# Altium schematic symbol library SCH - MCU - SI LABS - SI LABS EFR32MG13P732F512GM32 32-PIN QFN 5X5.SchLib: 1 symbol
Pins are listed as number, name and electrical type; pins without a type are passive.

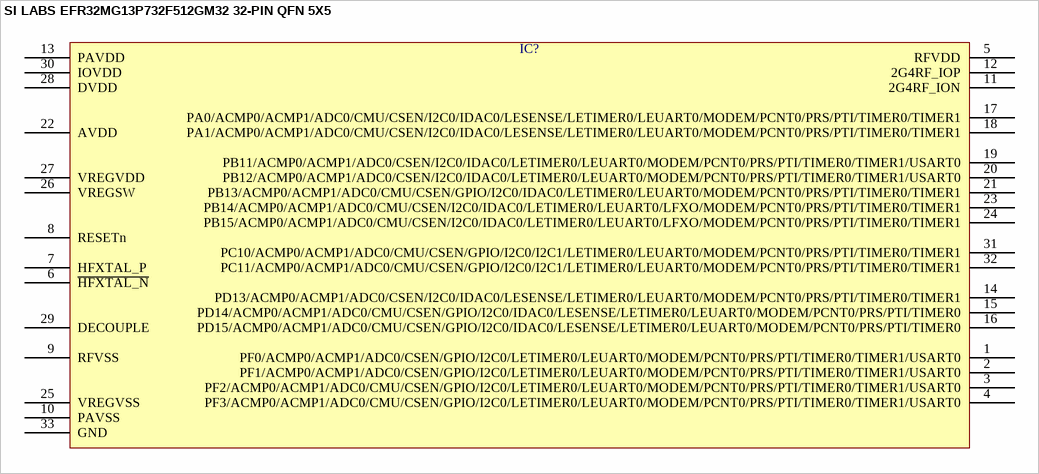
[diagram p0: symbol SI LABS EFR32MG13P732F512GM32 32-PIN QFN 5X5]

## SI LABS EFR32MG13P732F512GM32 32-PIN QFN 5X5
designator IC?  (value not drawn)
pins: 1 PF0/ACMP0/ACMP1/ADC0/CSEN/GPIO/I2C0/LETIMER0/LEUART0/MODEM/PCNT0/PRS/PTI/TIMER0/TIMER1/USART0, 2 PF1/ACMP0/ACMP1/ADC0/CSEN/GPIO/I2C0/LETIMER0/LEUART0/MODEM/PCNT0/PRS/PTI/TIMER0/TIMER1/USART0, 3 PF2/ACMP0/ACMP1/ADC0/CMU/CSEN/GPIO/I2C0/LETIMER0/LEUART0/MODEM/PCNT0/PRS/PTI/TIMER0/TIMER1/USART0, 4 PF3/ACMP0/ACMP1/ADC0/CMU/CSEN/GPIO/I2C0/LETIMER0/LEUART0/MODEM/PCNT0/PRS/PTI/TIMER0/TIMER1/USART0, 5 RFVDD, 6 ~{HFXTAL_N}, 7 HFXTAL_P, 8 RESETn, 9 RFVSS, 10 PAVSS, 11 2G4RF_ION, 12 2G4RF_IOP, 13 PAVDD, 14 PD13/ACMP0/ACMP1/ADC0/CSEN/I2C0/IDAC0/LESENSE/LETIMER0/LEUART0/MODEM/PCNT0/PRS/PTI/TIMER0/TIMER1, 15 PD14/ACMP0/ACMP1/ADC0/CMU/CSEN/GPIO/I2C0/IDAC0/LESENSE/LETIMER0/LEUART0/MODEM/PCNT0/PRS/PTI/TIMER0, 16 PD15/ACMP0/ACMP1/ADC0/CMU/CSEN/GPIO/I2C0/IDAC0/LESENSE/LETIMER0/LEUART0/MODEM/PCNT0/PRS/PTI/TIMER0, 17 PA0/ACMP0/ACMP1/ADC0/CMU/CSEN/I2C0/IDAC0/LESENSE/LETIMER0/LEUART0/MODEM/PCNT0/PRS/PTI/TIMER0/TIMER1, 18 PA1/ACMP0/ACMP1/ADC0/CMU/CSEN/I2C0/IDAC0/LESENSE/LETIMER0/LEUART0/MODEM/PCNT0/PRS/PTI/TIMER0/TIMER1, 19 PB11/ACMP0/ACMP1/ADC0/CSEN/I2C0/IDAC0/LETIMER0/LEUART0/MODEM/PCNT0/PRS/PTI/TIMER0/TIMER1/USART0, 20 PB12/ACMP0/ACMP1/ADC0/CSEN/I2C0/IDAC0/LETIMER0/LEUART0/MODEM/PCNT0/PRS/PTI/TIMER0/TIMER1/USART0, 21 PB13/ACMP0/ACMP1/ADC0/CMU/CSEN/GPIO/I2C0/IDAC0/LETIMER0/LEUART0/MODEM/PCNT0/PRS/PTI/TIMER0/TIMER1, 22 AVDD, 23 PB14/ACMP0/ACMP1/ADC0/CMU/CSEN/I2C0/IDAC0/LETIMER0/LEUART0/LFXO/MODEM/PCNT0/PRS/PTI/TIMER0/TIMER1, 24 PB15/ACMP0/ACMP1/ADC0/CMU/CSEN/I2C0/IDAC0/LETIMER0/LEUART0/LFXO/MODEM/PCNT0/PRS/PTI/TIMER0/TIMER1, 25 VREGVSS, 26 VREGSW, 27 VREGVDD, 28 DVDD, 29 DECOUPLE, 30 IOVDD, 31 PC10/ACMP0/ACMP1/ADC0/CMU/CSEN/GPIO/I2C0/I2C1/LETIMER0/LEUART0/MODEM/PCNT0/PRS/PTI/TIMER0/TIMER1, 32 PC11/ACMP0/ACMP1/ADC0/CMU/CSEN/GPIO/I2C0/I2C1/LETIMER0/LEUART0/MODEM/PCNT0/PRS/PTI/TIMER0/TIMER1, 33 GND